# EAGLE library part LM2587S (library Clock components)
LM2587 SIMPLE SWITCHER 5A Flyback Regulator
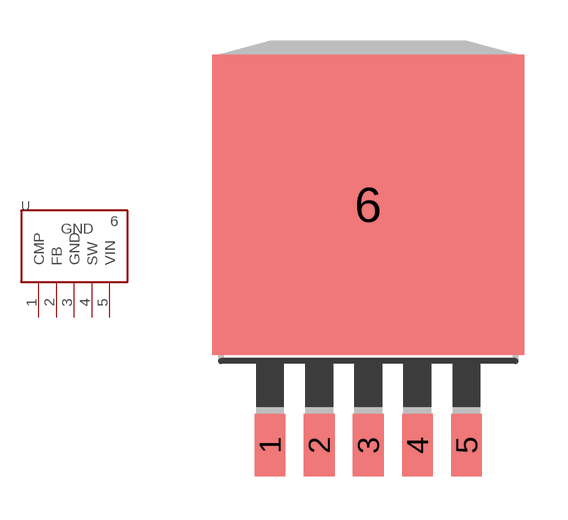
[diagram p0: symbol with the pads of TO263-5; footprint TO263-5]

Designator prefix -

## LM2587S  [TO263-5]
1  CMP
2  FB
3  GND
4  SW
5  VIN
6  GND

## Footprint TO263-5 (pad centres in mm)
TO-263
smd 1.067 x 2.159: 1 -3.404,-5.791; 2 -1.702,-5.791; 3 0,-5.791; 4 1.702,-5.791; 5 3.404,-5.791
smd 10.8 x 10.41: 6 0,2.54